# Altium schematic symbol library LMK61E2-SIAT.SchLib: 1 symbol
Pins are listed as number, name and electrical type; pins without a type are passive.

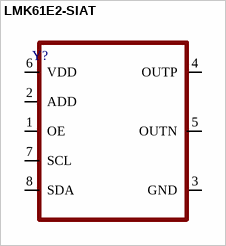
[diagram p0: symbol LMK61E2-SIAT]

## LMK61E2-SIAT
designator Y?
pins: 1 OE, 2 ADD, 3 GND, 4 OUTP, 5 OUTN, 6 VDD, 7 SCL, 8 SDA